# Altium footprint library WPME-VDLM.PcbLib: 2 footprints
Each footprint in its own frame and in the unit in brackets; x right, y up, seen from the top. Pads: shape width x height; smd on the part's side, far side on the other; paste and mask are expansions set on the pad; w line width, h text height; cw(c..) or ccw(c..) is an arc to the next point about the centre after c.
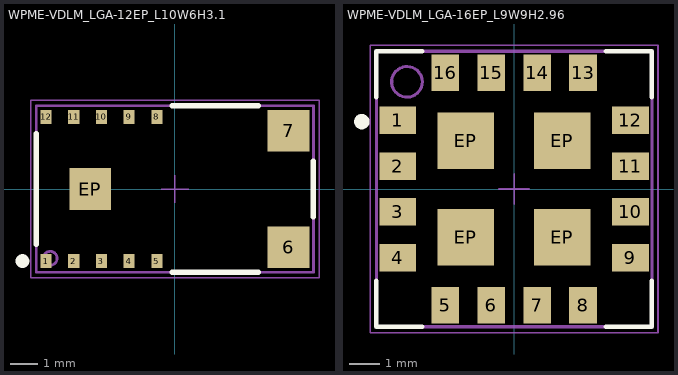
[diagram p0: the footprints below, top view; thin cyan lines are the x and y axes]

## WPME-VDLM_LGA-12EP_L10W6H3.1 [mm] "Variable Step Down Regulator Module, SMT, LGA-12EP, body 10.00 x 6.00mm"
height 3.1
pads (13):
  rect 0.4x0.5 smd: 1(-4.65,-2.6) 2(-3.65,-2.6) 3(-2.65,-2.6) 4(-1.65,-2.6) 5(-0.65,-2.6) 8(-0.65,2.6) 9(-1.65,2.6) 10(-2.65,2.6) 11(-3.65,2.6) 12(-4.65,2.6)
  rect 1.5x1.5 smd: 6(4.1,-2.1) 7(4.1,2.1) EP(-3.05,0)
Top Overlay:
  circle w0.25: c-5.5,-2.6 r0.125
  lines w0.2: -5,-2 -5,2 ; -0.1,-3 3,-3 ; -0.1,3 3,3 ; 5,-1 5,1
Assembly Notes:
  text "Stencil thickness of 100um." at -5.386,-4.32 h1
Top Assembly:
  circle w0.1: c-4.5,-2.5 r0.25
  lines w0.1: -5,-3 5,-3 5,3 -5,3 -5,-3
Top Designator:
  text ".Designator" at -7.498,-0.5 h1.5
Top Courtyard:
  lines w0.05: -5.2,-3.2 5.2,-3.2 5.2,3.2 -5.2,3.2 -5.2,-3.2
Top Component Center:
  lines w0.05: -0.5,0 0.5,0 ; 0,-0.5 0,0.5
3D body "1710x3801.stp": height 2.97, standoff 0, extent -5,-3 5,3

## WPME-VDLM_LGA-16EP_L9W9H2.96 [mm] "Variable Step Down Regulator Module, LGA-16EP, body 9.00x9.00mm"
height 2.96
pads (20):
  rect 1.2x0.9 smd paste-0.025: 1(-3.8,2.25) 2(-3.8,0.75) 3(-3.8,-0.75) 4(-3.8,-2.25) 9(3.8,-2.25) 10(3.8,-0.75) 11(3.8,0.75) 12(3.8,2.25)
  rect 0.9x1.2 smd paste-0.025: 5(-2.25,-3.8) 6(-0.75,-3.8) 7(0.75,-3.8) 8(2.25,-3.8) 13(2.25,3.8) 14(0.75,3.8) 15(-0.75,3.8) 16(-2.25,3.8)
  rect 1.85x1.85 smd paste-0.1: EP(-1.575,-1.575) EP(-1.575,1.575) EP(1.575,-1.575) EP(1.575,1.575)
Top Overlay:
  circle w0.25: c-4.975,2.2 r0.125
  lines w0.15: -4.5,-3 -4.5,-4.5 -3,-4.5 ; -4.5,3 -4.5,4.5 -3,4.5 ; 3,-4.5 4.5,-4.5 4.5,-3 ; 3,4.5 4.5,4.5 4.5,3
Top Assembly:
  circle w0.1: c-3.5,3.5 r0.5
  lines w0.1: -4.5,-4.5 -4.5,4.5 4.5,4.5 4.5,-4.5 -4.5,-4.5
Top Designator:
  text ".Designator" at -7.498,-0.5 h1.5
Top Courtyard:
  lines w0.05: -4.7,-4.7 4.7,-4.7 4.7,4.7 -4.7,4.7 -4.7,-4.7
Top Component Center:
  lines w0.05: -0.5,0 0.5,0 ; 0,-0.5 0,0.5
3D body "171031801.stp": height 3, standoff 0.04, extent -4.5,-4.5 4.5,4.5